# EAGLE library part A1101R (library X893)
http://anaren.com/sites/default/files/Part-Datasheets/A1101R09A.pdf http://anaren.com/sites/default/files/uploads/File/A1101R09x_Users_Manual.pdf http://www.ti.com/product/cc110l
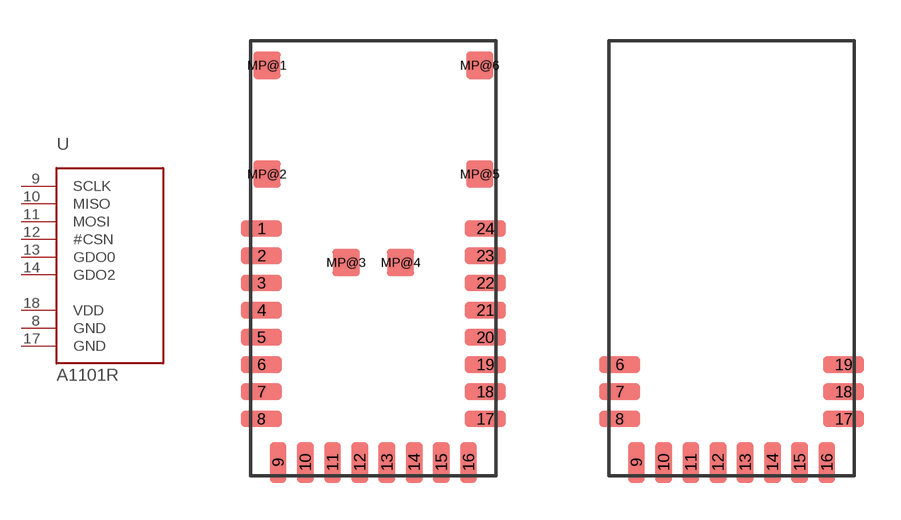
[diagram p153: symbol with the pads of A1101; footprints A1101, A1101X]

Designator prefix U

## A1101R  [A1101]
8  GND  pwr
9  SCLK  in
10  MISO  out
11  MOSI  in
12  #CSN  in
13  GDO0
14  GDO2
17  GND  pwr
18  VDD  pas

## A1101R-X  [A1101X]
Pads as for A1101

## Footprint A1101 (pad centres in mm)
http://anaren.com/sites/default/files/Part-Datasheets/A1101R09A.pdf
smd 1.5 x 0.61: 1 -4.11,8.6; 2 -4.11,7.6; 3 -4.11,6.6; 4 -4.11,5.6; 5 -4.11,4.6; 6 -4.11,3.6; 7 -4.11,2.6; 8 -4.11,1.6; 17 4.11,1.6; 18 4.11,2.6; 19 4.11,3.6; 20 4.11,4.6; 21 4.11,5.6; 22 4.11,6.6; 23 4.11,7.6; 24 4.11,8.6
smd 0.61 x 1.5: 9 -3.5,0; 10 -2.5,0; 11 -1.5,0; 12 -0.5,0; 13 0.5,0; 14 1.5,0; 15 2.5,0; 16 3.5,0
smd 1 x 1: MP@1 -3.91,14.6; MP@2 -3.91,10.6; MP@3 -1,7.35; MP@4 1,7.35; MP@5 3.91,10.6; MP@6 3.91,14.6

## Footprint A1101X (pad centres in mm)
http://anaren.com/sites/default/files/Part-Datasheets/A1101R09A.pdf
smd 1.5 x 0.61: 6 -4.11,3.6; 7 -4.11,2.6; 8 -4.11,1.6; 17 4.11,1.6; 18 4.11,2.6; 19 4.11,3.6
smd 0.61 x 1.5: 9 -3.5,0; 10 -2.5,0; 11 -1.5,0; 12 -0.5,0; 13 0.5,0; 14 1.5,0; 15 2.5,0; 16 3.5,0